# EAGLE library part ISL84051IBZ (library Intersil_By_element14_Batch_1)
Low Voltage, Single and Dual Supply, 8-to-1 Multiplexer, Dual 4-to-1 Multiplexer
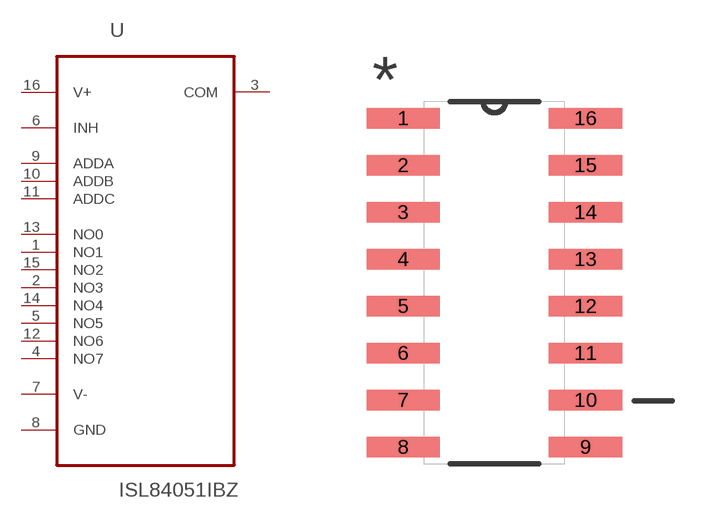
[diagram p224: symbol with the pads of SOIC127P600X175-16N; footprint SOIC127P600X175-16N]

Designator prefix U

## ISL84051IBZ (MPN: ISL84051IBZ; OC_FARNELL: 1562021; OC_NEWARK: 61J6767; PACKAGE: SOIC-16; SUPPLIER: INTERSIL)  [SOIC127P600X175-16N]
1  NO1  pas
2  NO3  pas
3  COM  pas
4  NO7  pas
5  NO5  pas
6  INH  pas
7  V-  pas
8  GND  pas
9  ADDA  in
10  ADDB  in
11  ADDC  in
12  NO6  pas
13  NO0  pas
14  NO4  pas
15  NO2  pas
16  V+  pwr

## Footprint SOIC127P600X175-16N (pad centres in mm)
smd 1.981 x 0.559: 1 -2.464,4.445; 2 -2.464,3.175; 3 -2.464,1.905; 4 -2.464,0.635; 5 -2.464,-0.635; 6 -2.464,-1.905; 7 -2.464,-3.175; 8 -2.464,-4.445; 9 2.464,-4.445; 10 2.464,-3.175; 11 2.464,-1.905; 12 2.464,-0.635; 13 2.464,0.635; 14 2.464,1.905; 15 2.464,3.175; 16 2.464,4.445